# Altium integrated library Renesas Microcontroller 740.IntLib: 274 symbols (part 13 of 13)
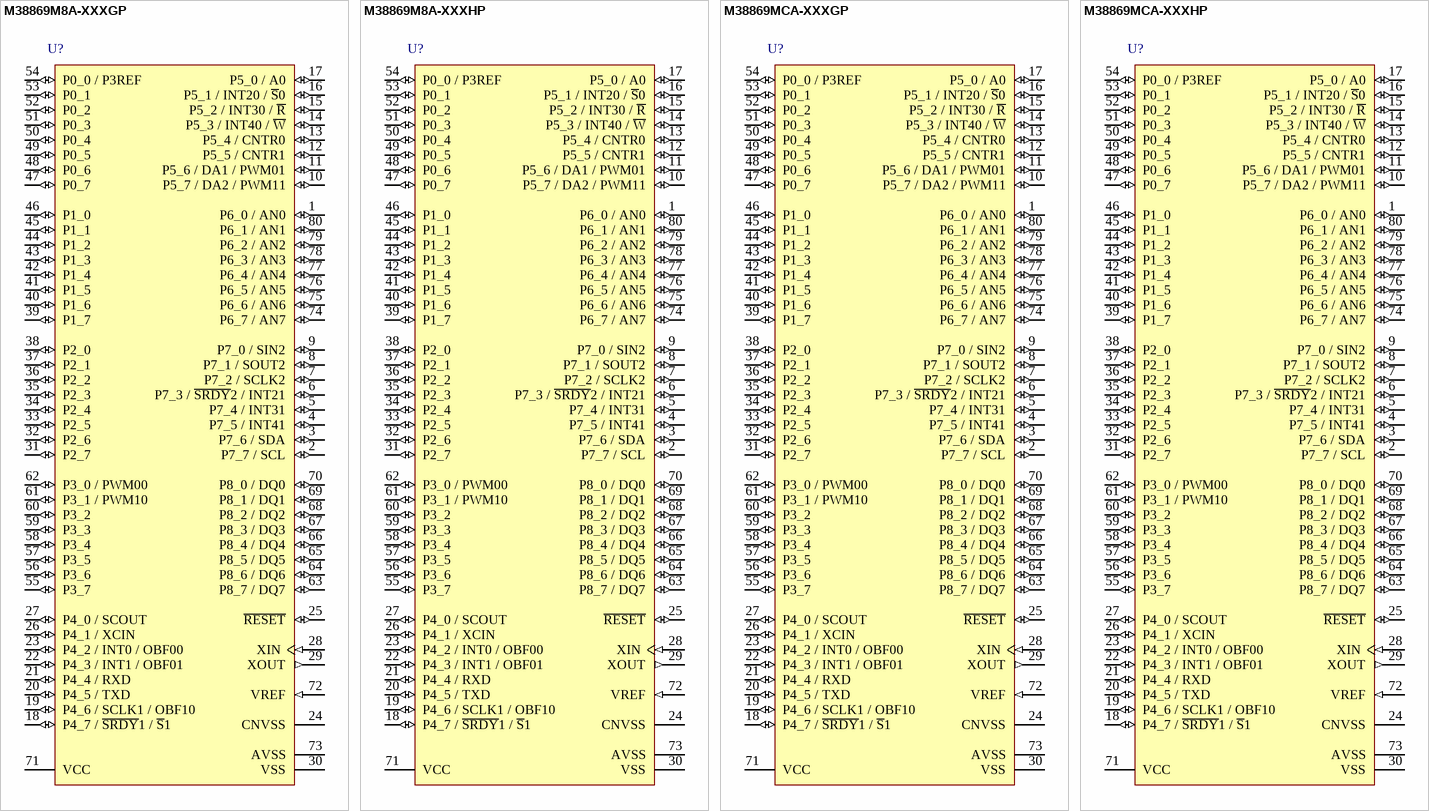
[diagram p49: symbols M38869M8A-XXXGP to M38869MCA-XXXHP]

## M38869M8A-XXXGP
designator U?
Mask ROM 8-BIT CMOS Microcomputer, 38000/740 Series CPU, 3886 Group, 32K ROM, 2K RAM, 80P6S-A Pkg; Published: 28-Aug-2009; DatasheetVersion: Rev.3.0, Sep-2000; PackageVersion: Sep-2005; PackageReference: PRQP0080JA-A; Publisher: Altium Limited; PackageDescription: 80-Pin Plastic Quad Flat Pack, 14 x 14 x 2.8 mm Body, 0.65 mm Pitch; Code_JEITA: P-QFP80-14x14-0.65; ComponentLink1Description: Manufacturer Link; ComponentLink1URL: http://sg.renesas.com/fmwk.jsp?cnt=740_family_landing.jsp&fp=/products/mpumcu/740_family/; ComponentLink2Description: Datasheet; ComponentLink2URL: http://documentation.renesas.com/eng/products/mpumcu/e3886um.pdf; ComponentLink3Description: Packaging Specification; ComponentLink3URL: http://sg.renesas.com/media/products/common_info/package/pdf/ic/code/prqp0080ja_a.pdf
footprint PRQP0080JA-A_N (QFP, 80-Leads, Body 14x14mm, Pitch 0.65mm, IPC Medium Density)
footprint PRQP0080JA-A_L (QFP, 80-Leads, Body 14x14mm, Pitch 0.65mm, IPC High Density)
footprint PRQP0080JA-A_M (QFP, 80-Leads, Body 14x14mm, Pitch 0.65mm, IPC Low Density)
pins: 1 P6_0 / AN0 (io), 2 P7_7 / SCL (io), 3 P7_6 / SDA (io), 4 P7_5 / INT41 (io), 5 P7_4 / INT31 (io), 6 P7_3 / ~{SRDY}2 / INT21 (io), 7 P7_2 / SCLK2 (io), 8 P7_1 / SOUT2 (io), 9 P7_0 / SIN2 (io), 10 P5_7 / DA2 / PWM11 (io), 11 P5_6 / DA1 / PWM01 (io), 12 P5_5 / CNTR1 (io), 13 P5_4 / CNTR0 (io), 14 P5_3 / INT40 / ~{W} (io), 15 P5_2 / INT30 / ~{R} (io), 16 P5_1 / INT20 / ~{S}0 (io), 17 P5_0 / A0 (io), 18 P4_7 / ~{SRDY}1 / ~{S}1 (io), 19 P4_6 / SCLK1 / OBF10 (io), 20 P4_5 / TXD (io), 21 P4_4 / RXD (io), 22 P4_3 / INT1 / OBF01 (io), 23 P4_2 / INT0 / OBF00 (io), 24 CNVSS (power), 25 ~{RESET} (io), 26 P4_1 / XCIN (io), 27 P4_0 / SCOUT (io), 28 XIN (in), 29 XOUT (out), 30 VSS (power), 31 P2_7 (io), 32 P2_6 (io), 33 P2_5 (io), 34 P2_4 (io), 35 P2_3 (io), 36 P2_2 (io), 37 P2_1 (io), 38 P2_0 (io), 39 P1_7 (io), 40 P1_6 (io), 41 P1_5 (io), 42 P1_4 (io), 43 P1_3 (io), 44 P1_2 (io), 45 P1_1 (io), 46 P1_0 (io), 47 P0_7 (io), 48 P0_6 (io), 49 P0_5 (io), 50 P0_4 (io), 51 P0_3 (io), 52 P0_2 (io), 53 P0_1 (io), 54 P0_0 / P3REF (io), 55 P3_7 (io), 56 P3_6 (io), 57 P3_5 (io), 58 P3_4 (io), 59 P3_3 (io), 60 P3_2 (io), 61 P3_1 / PWM10 (io), 62 P3_0 / PWM00 (io), 63 P8_7 / DQ7 (io), 64 P8_6 / DQ6 (io), 65 P8_5 / DQ5 (io), 66 P8_4 / DQ4 (io), 67 P8_3 / DQ3 (io), 68 P8_2 / DQ2 (io), 69 P8_1 / DQ1 (io), 70 P8_0 / DQ0 (io), 71 VCC (power), 72 VREF (in), 73 AVSS (power), 74 P6_7 / AN7 (io), 75 P6_6 / AN6 (io), 76 P6_5 / AN5 (io), 77 P6_4 / AN4 (io), 78 P6_3 / AN3 (io), 79 P6_2 / AN2 (io), 80 P6_1 / AN1 (io)

## M38869M8A-XXXHP
designator U?
Mask ROM 8-BIT CMOS Microcomputer, 38000/740 Series CPU, 3886 Group, 32K ROM, 2K RAM, 80P6Q-A Pkg; Published: 28-Aug-2009; DatasheetVersion: Rev.3.0, Sep-2000; PackageVersion: Sep-2005; PackageReference: PLQP0080KB-A; Publisher: Altium Limited; PackageDescription: 80-Pin Plastic Low Profile QFP, 12 x 12 x 1.4 mm Body, 0.5 mm Pitch; Code_JEITA: P-LQFP80-12x12-0.50; Code_IPC: SQFP50P1400X1400-80; ComponentLink1Description: Manufacturer Link; ComponentLink1URL: http://sg.renesas.com/fmwk.jsp?cnt=740_family_landing.jsp&fp=/products/mpumcu/740_family/; ComponentLink2Description: Datasheet; ComponentLink2URL: http://documentation.renesas.com/eng/products/mpumcu/e3886um.pdf; ComponentLink3Description: Packaging Specification; ComponentLink3URL: http://sg.renesas.com/media/products/common_info/package/pdf/ic/code/plqp0080kb_a.pdf
footprint PLQP0080KB-A_N (Shrink QFP, 80-Leads, Body 12x12mm, Pitch 0.5mm, IPC Medium Density)
footprint PLQP0080KB-A_L (Shrink QFP, 80-Leads, Body 12x12mm, Pitch 0.5mm, IPC High Density)
footprint PLQP0080KB-A_M (Shrink QFP, 80-Leads, Body 12x12mm, Pitch 0.5mm, IPC Low Density)
pins: 1 P6_0 / AN0 (io), 2 P7_7 / SCL (io), 3 P7_6 / SDA (io), 4 P7_5 / INT41 (io), 5 P7_4 / INT31 (io), 6 P7_3 / ~{SRDY}2 / INT21 (io), 7 P7_2 / SCLK2 (io), 8 P7_1 / SOUT2 (io), 9 P7_0 / SIN2 (io), 10 P5_7 / DA2 / PWM11 (io), 11 P5_6 / DA1 / PWM01 (io), 12 P5_5 / CNTR1 (io), 13 P5_4 / CNTR0 (io), 14 P5_3 / INT40 / ~{W} (io), 15 P5_2 / INT30 / ~{R} (io), 16 P5_1 / INT20 / ~{S}0 (io), 17 P5_0 / A0 (io), 18 P4_7 / ~{SRDY}1 / ~{S}1 (io), 19 P4_6 / SCLK1 / OBF10 (io), 20 P4_5 / TXD (io), 21 P4_4 / RXD (io), 22 P4_3 / INT1 / OBF01 (io), 23 P4_2 / INT0 / OBF00 (io), 24 CNVSS (power), 25 ~{RESET} (io), 26 P4_1 / XCIN (io), 27 P4_0 / SCOUT (io), 28 XIN (in), 29 XOUT (out), 30 VSS (power), 31 P2_7 (io), 32 P2_6 (io), 33 P2_5 (io), 34 P2_4 (io), 35 P2_3 (io), 36 P2_2 (io), 37 P2_1 (io), 38 P2_0 (io), 39 P1_7 (io), 40 P1_6 (io), 41 P1_5 (io), 42 P1_4 (io), 43 P1_3 (io), 44 P1_2 (io), 45 P1_1 (io), 46 P1_0 (io), 47 P0_7 (io), 48 P0_6 (io), 49 P0_5 (io), 50 P0_4 (io), 51 P0_3 (io), 52 P0_2 (io), 53 P0_1 (io), 54 P0_0 / P3REF (io), 55 P3_7 (io), 56 P3_6 (io), 57 P3_5 (io), 58 P3_4 (io), 59 P3_3 (io), 60 P3_2 (io), 61 P3_1 / PWM10 (io), 62 P3_0 / PWM00 (io), 63 P8_7 / DQ7 (io), 64 P8_6 / DQ6 (io), 65 P8_5 / DQ5 (io), 66 P8_4 / DQ4 (io), 67 P8_3 / DQ3 (io), 68 P8_2 / DQ2 (io), 69 P8_1 / DQ1 (io), 70 P8_0 / DQ0 (io), 71 VCC (power), 72 VREF (in), 73 AVSS (power), 74 P6_7 / AN7 (io), 75 P6_6 / AN6 (io), 76 P6_5 / AN5 (io), 77 P6_4 / AN4 (io), 78 P6_3 / AN3 (io), 79 P6_2 / AN2 (io), 80 P6_1 / AN1 (io)

## M38869MCA-XXXGP
designator U?
Mask ROM 8-BIT CMOS Microcomputer, 38000/740 Series CPU, 3886 Group, 48K ROM, 2K RAM, 80P6S-A Pkg; Published: 28-Aug-2009; DatasheetVersion: Rev.3.0, Sep-2000; PackageVersion: Sep-2005; PackageReference: PRQP0080JA-A; Publisher: Altium Limited; PackageDescription: 80-Pin Plastic Quad Flat Pack, 14 x 14 x 2.8 mm Body, 0.65 mm Pitch; Code_JEITA: P-QFP80-14x14-0.65; ComponentLink1Description: Manufacturer Link; ComponentLink1URL: http://sg.renesas.com/fmwk.jsp?cnt=740_family_landing.jsp&fp=/products/mpumcu/740_family/; ComponentLink2Description: Datasheet; ComponentLink2URL: http://documentation.renesas.com/eng/products/mpumcu/e3886um.pdf; ComponentLink3Description: Packaging Specification; ComponentLink3URL: http://sg.renesas.com/media/products/common_info/package/pdf/ic/code/prqp0080ja_a.pdf
footprint PRQP0080JA-A_N (QFP, 80-Leads, Body 14x14mm, Pitch 0.65mm, IPC Medium Density)
footprint PRQP0080JA-A_L (QFP, 80-Leads, Body 14x14mm, Pitch 0.65mm, IPC High Density)
footprint PRQP0080JA-A_M (QFP, 80-Leads, Body 14x14mm, Pitch 0.65mm, IPC Low Density)
pins: 1 P6_0 / AN0 (io), 2 P7_7 / SCL (io), 3 P7_6 / SDA (io), 4 P7_5 / INT41 (io), 5 P7_4 / INT31 (io), 6 P7_3 / ~{SRDY}2 / INT21 (io), 7 P7_2 / SCLK2 (io), 8 P7_1 / SOUT2 (io), 9 P7_0 / SIN2 (io), 10 P5_7 / DA2 / PWM11 (io), 11 P5_6 / DA1 / PWM01 (io), 12 P5_5 / CNTR1 (io), 13 P5_4 / CNTR0 (io), 14 P5_3 / INT40 / ~{W} (io), 15 P5_2 / INT30 / ~{R} (io), 16 P5_1 / INT20 / ~{S}0 (io), 17 P5_0 / A0 (io), 18 P4_7 / ~{SRDY}1 / ~{S}1 (io), 19 P4_6 / SCLK1 / OBF10 (io), 20 P4_5 / TXD (io), 21 P4_4 / RXD (io), 22 P4_3 / INT1 / OBF01 (io), 23 P4_2 / INT0 / OBF00 (io), 24 CNVSS (power), 25 ~{RESET} (io), 26 P4_1 / XCIN (io), 27 P4_0 / SCOUT (io), 28 XIN (in), 29 XOUT (out), 30 VSS (power), 31 P2_7 (io), 32 P2_6 (io), 33 P2_5 (io), 34 P2_4 (io), 35 P2_3 (io), 36 P2_2 (io), 37 P2_1 (io), 38 P2_0 (io), 39 P1_7 (io), 40 P1_6 (io), 41 P1_5 (io), 42 P1_4 (io), 43 P1_3 (io), 44 P1_2 (io), 45 P1_1 (io), 46 P1_0 (io), 47 P0_7 (io), 48 P0_6 (io), 49 P0_5 (io), 50 P0_4 (io), 51 P0_3 (io), 52 P0_2 (io), 53 P0_1 (io), 54 P0_0 / P3REF (io), 55 P3_7 (io), 56 P3_6 (io), 57 P3_5 (io), 58 P3_4 (io), 59 P3_3 (io), 60 P3_2 (io), 61 P3_1 / PWM10 (io), 62 P3_0 / PWM00 (io), 63 P8_7 / DQ7 (io), 64 P8_6 / DQ6 (io), 65 P8_5 / DQ5 (io), 66 P8_4 / DQ4 (io), 67 P8_3 / DQ3 (io), 68 P8_2 / DQ2 (io), 69 P8_1 / DQ1 (io), 70 P8_0 / DQ0 (io), 71 VCC (power), 72 VREF (in), 73 AVSS (power), 74 P6_7 / AN7 (io), 75 P6_6 / AN6 (io), 76 P6_5 / AN5 (io), 77 P6_4 / AN4 (io), 78 P6_3 / AN3 (io), 79 P6_2 / AN2 (io), 80 P6_1 / AN1 (io)

## M38869MCA-XXXHP
designator U?
Mask ROM 8-BIT CMOS Microcomputer, 38000/740 Series CPU, 3886 Group, 48K ROM, 2K RAM, 80P6Q-A Pkg; Published: 28-Aug-2009; DatasheetVersion: Rev.3.0, Sep-2000; PackageVersion: Sep-2005; PackageReference: PLQP0080KB-A; Publisher: Altium Limited; PackageDescription: 80-Pin Plastic Low Profile QFP, 12 x 12 x 1.4 mm Body, 0.5 mm Pitch; Code_JEITA: P-LQFP80-12x12-0.50; Code_IPC: SQFP50P1400X1400-80; ComponentLink1Description: Manufacturer Link; ComponentLink1URL: http://sg.renesas.com/fmwk.jsp?cnt=740_family_landing.jsp&fp=/products/mpumcu/740_family/; ComponentLink2Description: Datasheet; ComponentLink2URL: http://documentation.renesas.com/eng/products/mpumcu/e3886um.pdf; ComponentLink3Description: Packaging Specification; ComponentLink3URL: http://sg.renesas.com/media/products/common_info/package/pdf/ic/code/plqp0080kb_a.pdf
footprint PLQP0080KB-A_N (Shrink QFP, 80-Leads, Body 12x12mm, Pitch 0.5mm, IPC Medium Density)
footprint PLQP0080KB-A_L (Shrink QFP, 80-Leads, Body 12x12mm, Pitch 0.5mm, IPC High Density)
footprint PLQP0080KB-A_M (Shrink QFP, 80-Leads, Body 12x12mm, Pitch 0.5mm, IPC Low Density)
pins: 1 P6_0 / AN0 (io), 2 P7_7 / SCL (io), 3 P7_6 / SDA (io), 4 P7_5 / INT41 (io), 5 P7_4 / INT31 (io), 6 P7_3 / ~{SRDY}2 / INT21 (io), 7 P7_2 / SCLK2 (io), 8 P7_1 / SOUT2 (io), 9 P7_0 / SIN2 (io), 10 P5_7 / DA2 / PWM11 (io), 11 P5_6 / DA1 / PWM01 (io), 12 P5_5 / CNTR1 (io), 13 P5_4 / CNTR0 (io), 14 P5_3 / INT40 / ~{W} (io), 15 P5_2 / INT30 / ~{R} (io), 16 P5_1 / INT20 / ~{S}0 (io), 17 P5_0 / A0 (io), 18 P4_7 / ~{SRDY}1 / ~{S}1 (io), 19 P4_6 / SCLK1 / OBF10 (io), 20 P4_5 / TXD (io), 21 P4_4 / RXD (io), 22 P4_3 / INT1 / OBF01 (io), 23 P4_2 / INT0 / OBF00 (io), 24 CNVSS (power), 25 ~{RESET} (io), 26 P4_1 / XCIN (io), 27 P4_0 / SCOUT (io), 28 XIN (in), 29 XOUT (out), 30 VSS (power), 31 P2_7 (io), 32 P2_6 (io), 33 P2_5 (io), 34 P2_4 (io), 35 P2_3 (io), 36 P2_2 (io), 37 P2_1 (io), 38 P2_0 (io), 39 P1_7 (io), 40 P1_6 (io), 41 P1_5 (io), 42 P1_4 (io), 43 P1_3 (io), 44 P1_2 (io), 45 P1_1 (io), 46 P1_0 (io), 47 P0_7 (io), 48 P0_6 (io), 49 P0_5 (io), 50 P0_4 (io), 51 P0_3 (io), 52 P0_2 (io), 53 P0_1 (io), 54 P0_0 / P3REF (io), 55 P3_7 (io), 56 P3_6 (io), 57 P3_5 (io), 58 P3_4 (io), 59 P3_3 (io), 60 P3_2 (io), 61 P3_1 / PWM10 (io), 62 P3_0 / PWM00 (io), 63 P8_7 / DQ7 (io), 64 P8_6 / DQ6 (io), 65 P8_5 / DQ5 (io), 66 P8_4 / DQ4 (io), 67 P8_3 / DQ3 (io), 68 P8_2 / DQ2 (io), 69 P8_1 / DQ1 (io), 70 P8_0 / DQ0 (io), 71 VCC (power), 72 VREF (in), 73 AVSS (power), 74 P6_7 / AN7 (io), 75 P6_6 / AN6 (io), 76 P6_5 / AN5 (io), 77 P6_4 / AN4 (io), 78 P6_3 / AN3 (io), 79 P6_2 / AN2 (io), 80 P6_1 / AN1 (io)

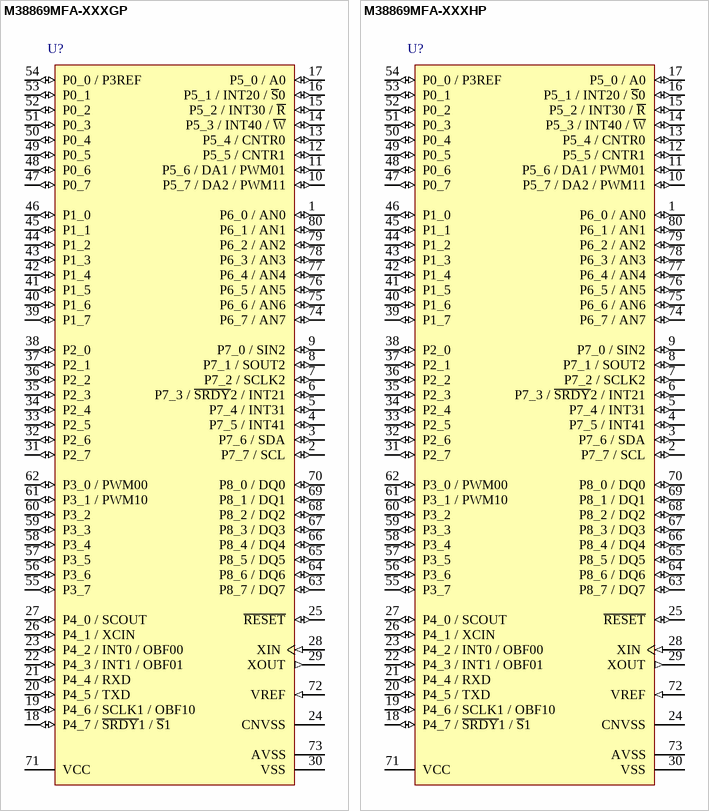
[diagram p37: symbols M38869MFA-XXXGP to M38869MFA-XXXHP]

## M38869MFA-XXXGP
designator U?
Mask ROM 8-BIT CMOS Microcomputer, 38000/740 Series CPU, 3886 Group, 60K ROM, 2K RAM, 80P6S-A Pkg; Published: 28-Aug-2009; DatasheetVersion: Rev.3.0, Sep-2000; PackageVersion: Sep-2005; PackageReference: PRQP0080JA-A; Publisher: Altium Limited; PackageDescription: 80-Pin Plastic Quad Flat Pack, 14 x 14 x 2.8 mm Body, 0.65 mm Pitch; Code_JEITA: P-QFP80-14x14-0.65; ComponentLink1Description: Manufacturer Link; ComponentLink1URL: http://sg.renesas.com/fmwk.jsp?cnt=740_family_landing.jsp&fp=/products/mpumcu/740_family/; ComponentLink2Description: Datasheet; ComponentLink2URL: http://documentation.renesas.com/eng/products/mpumcu/e3886um.pdf; ComponentLink3Description: Packaging Specification; ComponentLink3URL: http://sg.renesas.com/media/products/common_info/package/pdf/ic/code/prqp0080ja_a.pdf
footprint PRQP0080JA-A_N (QFP, 80-Leads, Body 14x14mm, Pitch 0.65mm, IPC Medium Density)
footprint PRQP0080JA-A_L (QFP, 80-Leads, Body 14x14mm, Pitch 0.65mm, IPC High Density)
footprint PRQP0080JA-A_M (QFP, 80-Leads, Body 14x14mm, Pitch 0.65mm, IPC Low Density)
pins: 1 P6_0 / AN0 (io), 2 P7_7 / SCL (io), 3 P7_6 / SDA (io), 4 P7_5 / INT41 (io), 5 P7_4 / INT31 (io), 6 P7_3 / ~{SRDY}2 / INT21 (io), 7 P7_2 / SCLK2 (io), 8 P7_1 / SOUT2 (io), 9 P7_0 / SIN2 (io), 10 P5_7 / DA2 / PWM11 (io), 11 P5_6 / DA1 / PWM01 (io), 12 P5_5 / CNTR1 (io), 13 P5_4 / CNTR0 (io), 14 P5_3 / INT40 / ~{W} (io), 15 P5_2 / INT30 / ~{R} (io), 16 P5_1 / INT20 / ~{S}0 (io), 17 P5_0 / A0 (io), 18 P4_7 / ~{SRDY}1 / ~{S}1 (io), 19 P4_6 / SCLK1 / OBF10 (io), 20 P4_5 / TXD (io), 21 P4_4 / RXD (io), 22 P4_3 / INT1 / OBF01 (io), 23 P4_2 / INT0 / OBF00 (io), 24 CNVSS (power), 25 ~{RESET} (io), 26 P4_1 / XCIN (io), 27 P4_0 / SCOUT (io), 28 XIN (in), 29 XOUT (out), 30 VSS (power), 31 P2_7 (io), 32 P2_6 (io), 33 P2_5 (io), 34 P2_4 (io), 35 P2_3 (io), 36 P2_2 (io), 37 P2_1 (io), 38 P2_0 (io), 39 P1_7 (io), 40 P1_6 (io), 41 P1_5 (io), 42 P1_4 (io), 43 P1_3 (io), 44 P1_2 (io), 45 P1_1 (io), 46 P1_0 (io), 47 P0_7 (io), 48 P0_6 (io), 49 P0_5 (io), 50 P0_4 (io), 51 P0_3 (io), 52 P0_2 (io), 53 P0_1 (io), 54 P0_0 / P3REF (io), 55 P3_7 (io), 56 P3_6 (io), 57 P3_5 (io), 58 P3_4 (io), 59 P3_3 (io), 60 P3_2 (io), 61 P3_1 / PWM10 (io), 62 P3_0 / PWM00 (io), 63 P8_7 / DQ7 (io), 64 P8_6 / DQ6 (io), 65 P8_5 / DQ5 (io), 66 P8_4 / DQ4 (io), 67 P8_3 / DQ3 (io), 68 P8_2 / DQ2 (io), 69 P8_1 / DQ1 (io), 70 P8_0 / DQ0 (io), 71 VCC (power), 72 VREF (in), 73 AVSS (power), 74 P6_7 / AN7 (io), 75 P6_6 / AN6 (io), 76 P6_5 / AN5 (io), 77 P6_4 / AN4 (io), 78 P6_3 / AN3 (io), 79 P6_2 / AN2 (io), 80 P6_1 / AN1 (io)

## M38869MFA-XXXHP
designator U?
Mask ROM 8-BIT CMOS Microcomputer, 38000/740 Series CPU, 3886 Group, 60K ROM, 2K RAM, 80P6Q-A Pkg; Published: 28-Aug-2009; DatasheetVersion: Rev.3.0, Sep-2000; PackageVersion: Sep-2005; PackageReference: PLQP0080KB-A; Publisher: Altium Limited; PackageDescription: 80-Pin Plastic Low Profile QFP, 12 x 12 x 1.4 mm Body, 0.5 mm Pitch; Code_JEITA: P-LQFP80-12x12-0.50; Code_IPC: SQFP50P1400X1400-80; ComponentLink1Description: Manufacturer Link; ComponentLink1URL: http://sg.renesas.com/fmwk.jsp?cnt=740_family_landing.jsp&fp=/products/mpumcu/740_family/; ComponentLink2Description: Datasheet; ComponentLink2URL: http://documentation.renesas.com/eng/products/mpumcu/e3886um.pdf; ComponentLink3Description: Packaging Specification; ComponentLink3URL: http://sg.renesas.com/media/products/common_info/package/pdf/ic/code/plqp0080kb_a.pdf
footprint PLQP0080KB-A_N (Shrink QFP, 80-Leads, Body 12x12mm, Pitch 0.5mm, IPC Medium Density)
footprint PLQP0080KB-A_L (Shrink QFP, 80-Leads, Body 12x12mm, Pitch 0.5mm, IPC High Density)
footprint PLQP0080KB-A_M (Shrink QFP, 80-Leads, Body 12x12mm, Pitch 0.5mm, IPC Low Density)
pins: 1 P6_0 / AN0 (io), 2 P7_7 / SCL (io), 3 P7_6 / SDA (io), 4 P7_5 / INT41 (io), 5 P7_4 / INT31 (io), 6 P7_3 / ~{SRDY}2 / INT21 (io), 7 P7_2 / SCLK2 (io), 8 P7_1 / SOUT2 (io), 9 P7_0 / SIN2 (io), 10 P5_7 / DA2 / PWM11 (io), 11 P5_6 / DA1 / PWM01 (io), 12 P5_5 / CNTR1 (io), 13 P5_4 / CNTR0 (io), 14 P5_3 / INT40 / ~{W} (io), 15 P5_2 / INT30 / ~{R} (io), 16 P5_1 / INT20 / ~{S}0 (io), 17 P5_0 / A0 (io), 18 P4_7 / ~{SRDY}1 / ~{S}1 (io), 19 P4_6 / SCLK1 / OBF10 (io), 20 P4_5 / TXD (io), 21 P4_4 / RXD (io), 22 P4_3 / INT1 / OBF01 (io), 23 P4_2 / INT0 / OBF00 (io), 24 CNVSS (power), 25 ~{RESET} (io), 26 P4_1 / XCIN (io), 27 P4_0 / SCOUT (io), 28 XIN (in), 29 XOUT (out), 30 VSS (power), 31 P2_7 (io), 32 P2_6 (io), 33 P2_5 (io), 34 P2_4 (io), 35 P2_3 (io), 36 P2_2 (io), 37 P2_1 (io), 38 P2_0 (io), 39 P1_7 (io), 40 P1_6 (io), 41 P1_5 (io), 42 P1_4 (io), 43 P1_3 (io), 44 P1_2 (io), 45 P1_1 (io), 46 P1_0 (io), 47 P0_7 (io), 48 P0_6 (io), 49 P0_5 (io), 50 P0_4 (io), 51 P0_3 (io), 52 P0_2 (io), 53 P0_1 (io), 54 P0_0 / P3REF (io), 55 P3_7 (io), 56 P3_6 (io), 57 P3_5 (io), 58 P3_4 (io), 59 P3_3 (io), 60 P3_2 (io), 61 P3_1 / PWM10 (io), 62 P3_0 / PWM00 (io), 63 P8_7 / DQ7 (io), 64 P8_6 / DQ6 (io), 65 P8_5 / DQ5 (io), 66 P8_4 / DQ4 (io), 67 P8_3 / DQ3 (io), 68 P8_2 / DQ2 (io), 69 P8_1 / DQ1 (io), 70 P8_0 / DQ0 (io), 71 VCC (power), 72 VREF (in), 73 AVSS (power), 74 P6_7 / AN7 (io), 75 P6_6 / AN6 (io), 76 P6_5 / AN5 (io), 77 P6_4 / AN4 (io), 78 P6_3 / AN3 (io), 79 P6_2 / AN2 (io), 80 P6_1 / AN1 (io)